# Altium integrated library Winbond-QSPI_Flash.IntLib: 1 symbol
Pins are listed as number, name and electrical type; pins without a type are passive.

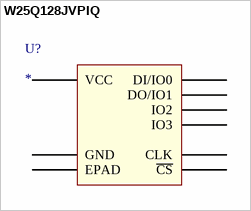
[diagram p0: symbol W25Q128JVPIQ]

## W25Q128JVPIQ
designator U?
Winbond Electronics SpiFlash Series IC FLASH 128MBIT 133MHZ 8WSON
footprint W25Q128JV WSON8(6x5) (Winbond Electronics SpiFlash W25Q128JV WSON8(6x5) Package)
pins: 1 ~{CS}, 2 DO/IO1, 3 IO2, 4 GND, 5 DI/IO0, 6 CLK, 7 IO3, 8 VCC, EPAD